# Altium footprint library HB_Driver.PcbLib: 1 footprints
Each footprint in its own frame and in the unit in brackets; x right, y up, seen from the top. Pads: shape width x height; smd on the part's side, far side on the other; paste and mask are expansions set on the pad; w line width, h text height; cw(c..) or ccw(c..) is an arc to the next point about the centre after c.
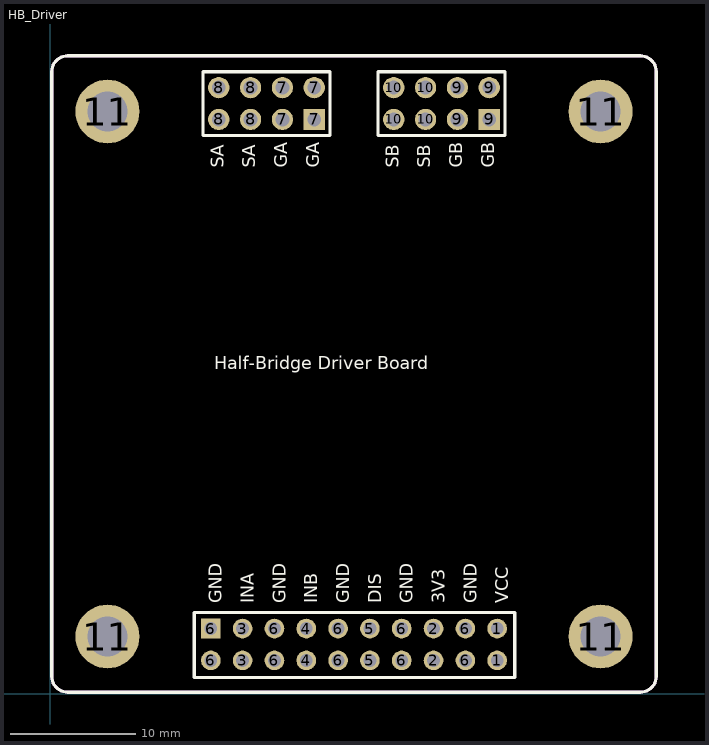
[diagram p0: the footprint, top view; thin cyan lines are the x and y axes]

## HB_Driver [mm]
pads (40):
  round 1.57 hole 1.02 paste-2539.97 mask+0: 1(35.687,2.667) 1(35.687,5.207) 2(30.607,2.667) 2(30.607,5.207) 3(15.367,2.667) 3(15.367,5.207) 4(20.447,2.667) 4(20.447,5.207) 5(25.527,2.667) 5(25.527,5.207) 6(12.827,2.667) 6(17.907,2.667) 6(17.907,5.207) 6(22.987,2.667) 6(22.987,5.207) 6(28.067,2.667) 6(28.067,5.207) 6(33.147,2.667) 6(33.147,5.207)
  rect 1.57x1.57 hole 1.02 paste-2539.97 mask+0: 6(12.827,5.207)
  round 1.7 hole 1.1 paste-2539.97 mask+0: 7(18.542,45.847) 7(18.542,48.387) 7(21.082,48.387) 8(13.462,45.847) 8(13.462,48.387) 8(16.002,45.847) 8(16.002,48.387) 9(32.512,45.847) 9(32.512,48.387) 9(35.052,48.387) 10(27.432,45.847) 10(27.432,48.387) 10(29.972,45.847) 10(29.972,48.387)
  rect 1.7x1.7 hole 1.1 paste-2539.97 mask+0: 7(21.082,45.847) 9(35.052,45.847)
  round 5.099 hole 3.2 paste-2539.97 mask+0: 11(4.572,4.572) 11(4.572,46.482) 11(43.942,4.572) 11(43.942,46.482)
Top Layer:
  lines w0.508: 25.527,5.207 25.527,5.494
  lines w1.016: 30.607,5.207 30.607,5.357
Top Overlay:
  lines w0.254: 0.127,1.397 ccw(c1.397,1.397) 1.397,0.127 47.117,0.127 ccw(c47.117,1.397) 48.387,1.397 48.387,49.657 ccw(c47.117,49.657) 47.117,50.927 1.397,50.927 ccw(c1.397,49.657) 0.127,49.657 0.127,1.397 ; 11.506,1.295 37.084,1.295 37.084,6.477 11.506,6.477 11.506,1.295 ; 12.192,44.577 22.352,44.577 22.352,49.657 12.192,49.657 12.192,44.577 ; 26.162,44.577 36.322,44.577 36.322,49.657 26.162,49.657 26.162,44.577
  text "Half-Bridge Driver Board" at 13.085,25.916 h1.02
  text "INA" at 16.256,7.239 h1.02
  text "INB" at 21.336,7.239 h1.02
  text "GND" at 23.876,7.239 h1.02
  text "GND" at 18.796,7.239 h1.02
  text "GND" at 34.036,7.239 h1.02
  text "DIS" at 26.416,7.239 h1.02
  text "3V3" at 31.496,7.239 h1.02
  text "GND" at 28.956,7.239 h1.02
  text "VCC" at 36.576,7.239 h1.02
  text "GND" at 13.716,7.239 h1.02
  text "GA" at 21.463,41.995 h1.02
  text "GA" at 18.923,41.995 h1.02
  text "SA" at 13.843,41.995 h1.02
  text "SA" at 16.383,41.995 h1.02
  text "GB" at 35.433,41.995 h1.02
  text "GB" at 32.893,41.995 h1.02
  text "SB" at 30.353,41.995 h1.02
  text "SB" at 27.813,41.995 h1.02
Top Courtyard:
  lines w0.254: 0.127,1.397 ccw(c1.397,1.397) 1.397,0.127 47.117,0.127 ccw(c47.117,1.397) 48.387,1.397 48.387,49.657 ccw(c47.117,49.657) 47.117,50.927 1.397,50.927 ccw(c1.397,49.657) 0.127,49.657 0.127,1.397
3D body "HalfBridgeDriverBoard.step": height 16.05, standoff -5.82, extent 0.076,0.102 48.336,50.902